# EAGLE library part ESMS (library 2010.09.20)
Sega Master System, outside Japan/Korea, cartridge port The ordering of the address and data pins allows for simple connection to common ROM and EPROM chips. description taken from SMSPower.org µ 2011.01.19 D Lue Choy
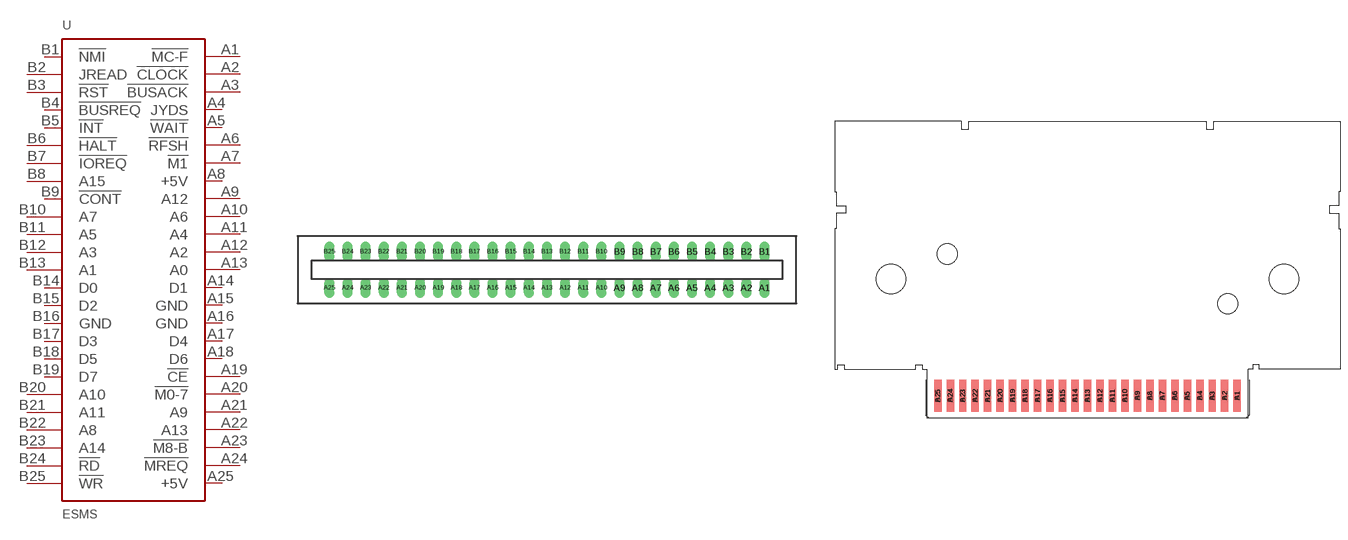
[diagram p9: symbol with the pads of CARD50F; footprints CARD50F, CARD50FAT]

Designator prefix -

## ESMSF  [CARD50F]
A1  !MC-F
A2  !CLOCK
A3  !BUSACK
A4  JYDS
A5  !WAIT
A6  !RFSH
A7  !M1
A8  +5V  sup
A9  A12
A10  A6
A11  A4
A12  A2
A13  A0
A14  D1
A15  GND  sup
A16  GND  sup
A17  D4
A18  D6
A19  !CE
A20  !M0-7
A21  A9
A22  A13
A23  !M8-B
A24  !MREQ
A25  +5V  sup
B1  !NMI
B2  JREAD
B3  !RST
B4  !BUSREQ
B5  !INT
B6  !HALT
B7  !IOREQ
B8  A15
B9  !CONT
B10  A7
B11  A5
B12  A3
B13  A1
B14  D0
B15  D2
B16  GND  sup
B17  D3
B18  D5
B19  D7
B20  A10
B21  A11
B22  A8
B23  A14
B24  !RD
B25  !WR

## ESMSFAT  [CARD50FAT]
Pads as for CARD50F

## ESMSM  [CARD50M]
Pads as for CARD50F

## ESMSPCB  [CARD50PCB]
Pads as for CARD50F

## Footprint CARD50F (pad centres in mm)
50 pin 0.1" cardedge connector derived from ISA-16 found in Eagle's con-pc.lbr. µ2011.01.19 D Lue Choy
drill 0.9 long: A1 30.48,-2.54; A2 27.94,-2.54; A3 25.4,-2.54; A4 22.86,-2.54; A5 20.32,-2.54; A6 17.78,-2.54; A7 15.24,-2.54; A8 12.7,-2.54; A9 10.16,-2.54; A10 7.62,-2.54; A11 5.08,-2.54; A12 2.54,-2.54; A13 0,-2.54; A14 -2.54,-2.54; A15 -5.08,-2.54; A16 -7.62,-2.54; A17 -10.16,-2.54; A18 -12.7,-2.54; A19 -15.24,-2.54; A20 -17.78,-2.54; A21 -20.32,-2.54; A22 -22.86,-2.54; A23 -25.4,-2.54; A24 -27.94,-2.54; A25 -30.48,-2.54; B1 30.48,2.54; B2 27.94,2.54; B3 25.4,2.54; B4 22.86,2.54; B5 20.32,2.54; B6 17.78,2.54; B7 15.24,2.54; B8 12.7,2.54; B9 10.16,2.54; B10 7.62,2.54; B11 5.08,2.54; B12 2.54,2.54; B13 0,2.54; B14 -2.54,2.54; B15 -5.08,2.54; B16 -7.62,2.54; B17 -10.16,2.54; B18 -12.7,2.54; B19 -15.24,2.54; B20 -17.78,2.54; B21 -20.32,2.54; B22 -22.86,2.54; B23 -25.4,2.54; B24 -27.94,2.54; B25 -30.48,2.54

## Footprint CARD50FAT (pad centres in mm)
Export SMS cartridge PCB (optimistic/fat dimensions) Derived from a photograph of a 171-5603A inside of a shell provided by Gerry of digital-circuitry.com This component was drawn at a resolution of 1/80" with a detected error of 1 resolution point. If a 84/355" drill bit is unavailble, use a 15/64". If a 34/209" drill bit is unavailble, use an 11/64". µ2011.05.30 D Lue Choy
smd 1.524 x 6.477: A1 30.48,0; A2 27.94,0; A3 25.4,0; A4 22.86,0; A5 20.32,0; A6 17.78,0; A7 15.24,0; A8 12.7,0; A9 10.16,0; A10 7.62,0; A11 5.08,0; A12 2.54,0; A13 0,0; A14 -2.54,0; A15 -5.08,0; A16 -7.62,0; A17 -10.16,0; A18 -12.7,0; A19 -15.24,0; A20 -17.78,0; A21 -20.32,0; A22 -22.86,0; A23 -25.4,0; A24 -27.94,0; A25 -30.48,0
smd 1.524 x 6.477 bottom: B1 30.48,0; B2 27.94,0; B3 25.4,0; B4 22.86,0; B5 20.32,0; B6 17.78,0; B7 15.24,0; B8 12.7,0; B9 10.16,0; B10 7.62,0; B11 5.08,0; B12 2.54,0; B13 0,0; B14 -2.54,0; B15 -5.08,0; B16 -7.62,0; B17 -10.16,0; B18 -12.7,0; B19 -15.24,0; B20 -17.78,0; B21 -20.32,0; B22 -22.86,0; B23 -25.4,0; B24 -27.94,0; B25 -30.48,0
hole 6.01 at -40.005,23.812
hole 6.01 at 40.005,23.812
hole 4.132 at -28.575,28.892
hole 4.132 at 28.575,18.733

## Footprint CARD50M (pad centres in mm)
50 pin 0.1" cardedge connector derived from 8-bit CARD IBM/PC-AT found in Eagle's con-pc.lbr. µ2011.01.19 D Lue Choy
smd 1.524 x 6.477: A1 0,5.08; A2 -2.54,5.08; A3 -5.08,5.08; A4 -7.62,5.08; A5 -10.16,5.08; A6 -12.7,5.08; A7 -15.24,5.08; A8 -17.78,5.08; A9 -20.32,5.08; A10 -22.86,5.08; A11 -25.4,5.08; A12 -27.94,5.08; A13 -30.48,5.08; A14 -33.02,5.08; A15 -35.56,5.08; A16 -38.1,5.08; A17 -40.64,5.08; A18 -43.18,5.08; A19 -45.72,5.08; A20 -48.26,5.08; A21 -50.8,5.08; A22 -53.34,5.08; A23 -55.88,5.08; A24 -58.42,5.08; A25 -60.96,5.08
smd 1.524 x 6.477 bottom: B1 0,5.08; B2 -2.54,5.08; B3 -5.08,5.08; B4 -7.62,5.08; B5 -10.16,5.08; B6 -12.7,5.08; B7 -15.24,5.08; B8 -17.78,5.08; B9 -20.32,5.08; B10 -22.86,5.08; B11 -25.4,5.08; B12 -27.94,5.08; B13 -30.48,5.08; B14 -33.02,5.08; B15 -35.56,5.08; B16 -38.1,5.08; B17 -40.64,5.08; B18 -43.18,5.08; B19 -45.72,5.08; B20 -48.26,5.08; B21 -50.8,5.08; B22 -53.34,5.08; B23 -55.88,5.08; B24 -58.42,5.08; B25 -60.96,5.08

## Footprint CARD50PCB (pad centres in mm)
Export SMS cartridge PCB (conservative dimensions) Derived from a photograph of a 171-5603A provided by KuKzz of the gbx.ru forums <http://www.gbx.ru/lofiversion/index.php/t26603-350.html> Additional measurements provided by Gerry of digital-circuitry.com This component was drawn at a resolution of 1/80" with a detected error of 1 resolution point. If a 84/355" drill bit is unavailble, use a 15/64". If a 34/209" drill bit is unavailble, use an 11/64". µ2011.05.30 D Lue Choy
smd 1.524 x 6.477: A1 30.48,0; A2 27.94,0; A3 25.4,0; A4 22.86,0; A5 20.32,0; A6 17.78,0; A7 15.24,0; A8 12.7,0; A9 10.16,0; A10 7.62,0; A11 5.08,0; A12 2.54,0; A13 0,0; A14 -2.54,0; A15 -5.08,0; A16 -7.62,0; A17 -10.16,0; A18 -12.7,0; A19 -15.24,0; A20 -17.78,0; A21 -20.32,0; A22 -22.86,0; A23 -25.4,0; A24 -27.94,0; A25 -30.48,0
smd 1.524 x 6.477 bottom: B1 30.48,0; B2 27.94,0; B3 25.4,0; B4 22.86,0; B5 20.32,0; B6 17.78,0; B7 15.24,0; B8 12.7,0; B9 10.16,0; B10 7.62,0; B11 5.08,0; B12 2.54,0; B13 0,0; B14 -2.54,0; B15 -5.08,0; B16 -7.62,0; B17 -10.16,0; B18 -12.7,0; B19 -15.24,0; B20 -17.78,0; B21 -20.32,0; B22 -22.86,0; B23 -25.4,0; B24 -27.94,0; B25 -30.48,0
hole 6.01 at -40.005,23.812
hole 6.01 at 40.005,23.812
hole 4.132 at -28.575,28.892
hole 4.132 at 28.575,18.733